# EAGLE library part M-2X06- (library con-headers-jp)
MALE HEADER
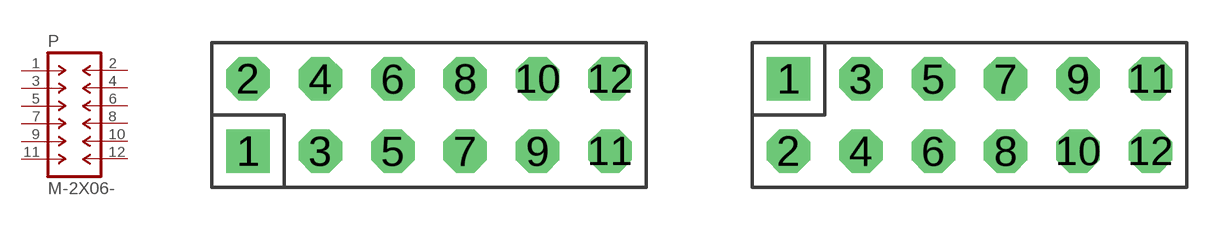
[diagram p63: symbol with the pads of DIL-100-2X06; footprints DIL-100-2X06, DIL-100-2X06_M]

Designator prefix P

## M-2X06-DIL-100  [DIL-100-2X06]
1  1  pas
2  2  pas
3  3  pas
4  4  pas
5  5  pas
6  6  pas
7  7  pas
8  8  pas
9  9  pas
10  10  pas
11  11  pas
12  12  pas

## M-2X06-DIL-100_M  [DIL-100-2X06_M]
Pads as for DIL-100-2X06

## M-2X06-DIL-2MM  [DIL-2MM-2X06]
Pads as for DIL-100-2X06

## M-2X06-DIL-2MM_M  [DIL-2MM-2X06_M]
Pads as for DIL-100-2X06

## M-2X06-87759  [87759-12]
Pads as for DIL-100-2X06

## M-2X06-87759_M  [87759-12_M]
Pads as for DIL-100-2X06

## Footprint DIL-100-2X06 (pad centres in mm)
PIN HEADER - 0.1"
drill 1.016 square: 1 -6.35,-1.27
drill 1.016 octagon: 2 -6.35,1.27; 3 -3.81,-1.27; 4 -3.81,1.27; 5 -1.27,-1.27; 6 -1.27,1.27; 7 1.27,-1.27; 8 1.27,1.27; 9 3.81,-1.27; 10 3.81,1.27; 11 6.35,-1.27; 12 6.35,1.27

## Footprint DIL-100-2X06_M (pad centres in mm)
PIN HEADER - MIRRORED 0.1"
drill 1.016 square: 1 -6.35,1.27
drill 1.016 octagon: 2 -6.35,-1.27; 3 -3.81,1.27; 4 -3.81,-1.27; 5 -1.27,1.27; 6 -1.27,-1.27; 7 1.27,1.27; 8 1.27,-1.27; 9 3.81,1.27; 10 3.81,-1.27; 11 6.35,1.27; 12 6.35,-1.27

## Footprint DIL-2MM-2X06 (pad centres in mm)
PIN HEADER - 2MM"
drill 0.711 square: 1 -5,-1
drill 0.711: 2 -5,1; 3 -3,-1; 4 -3,1; 5 -1,-1; 6 -1,1; 7 1,-1; 8 1,1; 9 3,-1; 10 3,1; 11 5,-1; 12 5,1

## Footprint DIL-2MM-2X06_M (pad centres in mm)
PIN HEADER - MIRRORED 2MM
drill 0.711 square: 1 -5,1
drill 0.711: 2 -5,-1; 3 -3,1; 4 -3,-1; 5 -1,1; 6 -1,-1; 7 1,1; 8 1,-1; 9 3,1; 10 3,-1; 11 5,1; 12 5,-1

## Footprint 87759-12 (pad centres in mm)
Molex PCB Pin Headers 2.00mm (.079") Pitch Milli-Grid Header, Vertical SMD
smd 1 x 2.75: 1 -5,-2.15; 2 -5,2.15; 3 -3,-2.15; 4 -3,2.15; 5 -1,-2.15; 6 -1,2.15; 7 1,-2.15; 8 1,2.15; 9 3,-2.15; 10 3,2.15; 11 5,-2.15; 12 5,2.15
hole 1 at -4,0
hole 1 at 4,0

## Footprint 87759-12_M (pad centres in mm)
Molex PCB Pin Headers - MIRRORED PADS 2.00mm (.079") Pitch Milli-Grid Header, Vertical SMD
smd 1 x 2.75: 1 -5,2.15; 2 -5,-2.15; 3 -3,2.15; 4 -3,-2.15; 5 -1,2.15; 6 -1,-2.15; 7 1,2.15; 8 1,-2.15; 9 3,2.15; 10 3,-2.15; 11 5,2.15; 12 5,-2.15
hole 1 at -4,0
hole 1 at 4,0